# Altium footprint library PCT.PcbLib: 12 footprints
Each footprint in its own frame and in the unit in brackets; x right, y up, seen from the top. Pads: shape width x height; smd on the part's side, far side on the other; paste and mask are expansions set on the pad; w line width, h text height; cw(c..) or ccw(c..) is an arc to the next point about the centre after c.
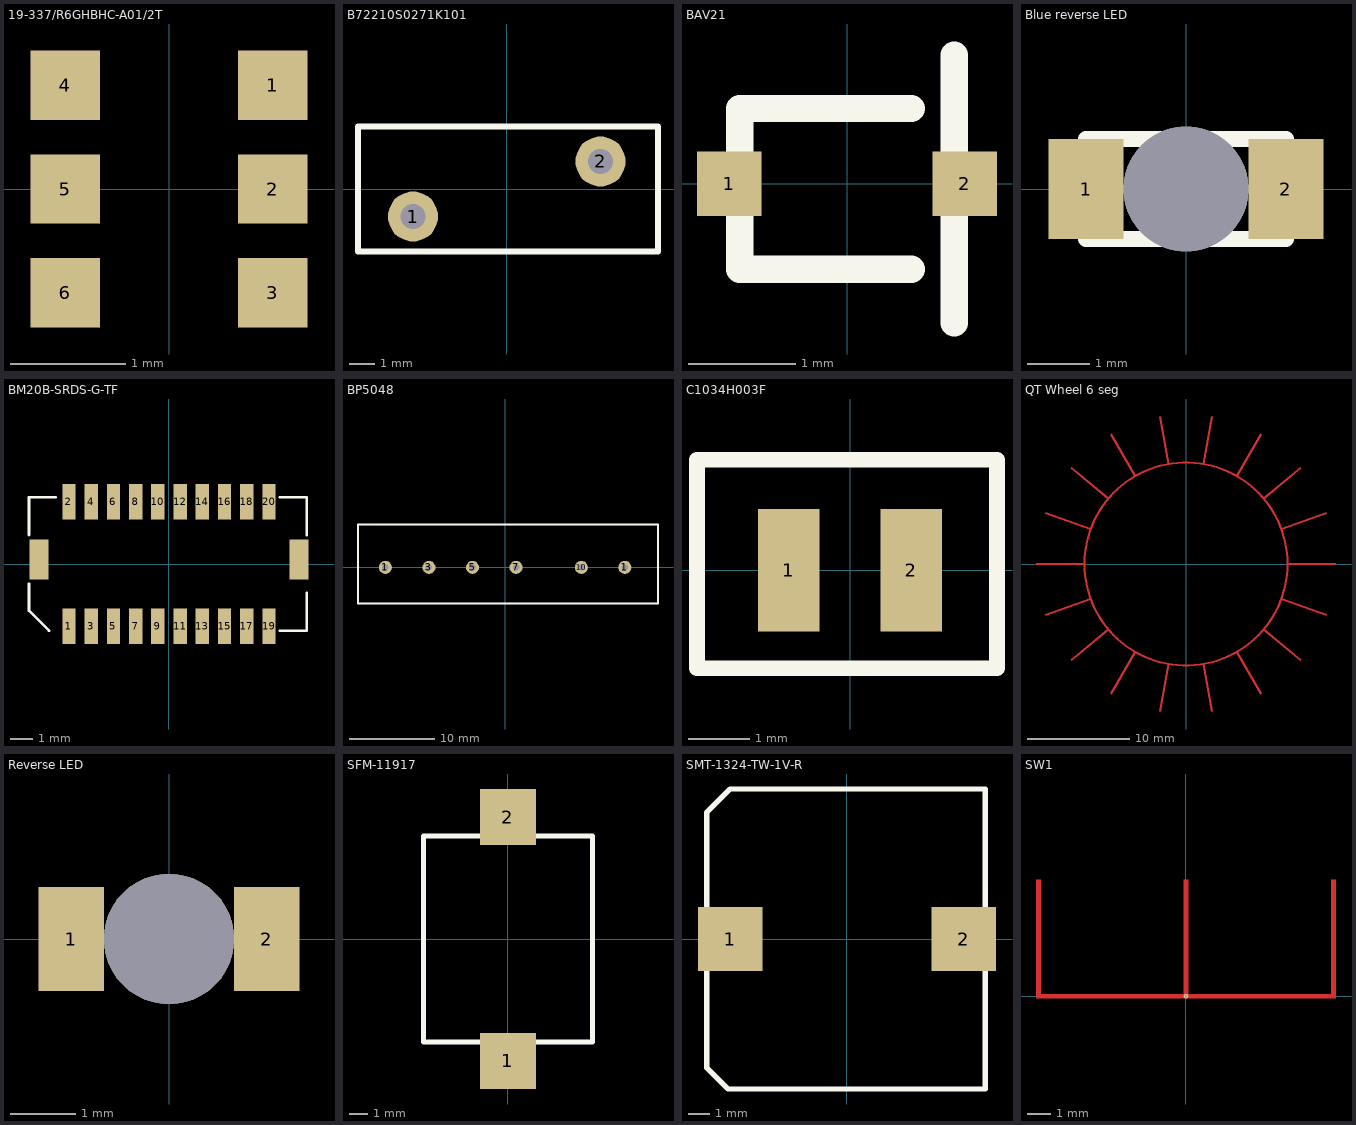
[diagram p0: the footprints below, top view; thin cyan lines are the x and y axes]

## 19-337/R6GHBHC-A01/2T [mm] "Chip LED Full Colour"
height 0.15
pads (6):
  rect 0.6x0.6 smd: 1(0.9,0.9) 2(0.9,0) 3(0.9,-0.9) 4(-0.9,0.9) 5(-0.9,0) 6(-0.9,-0.9)
Multi-Layer:
  pour cut-out: -0.6,1.3 0.6,1.3 0.6,-1.3 -0.6,-1.3

## B72210S0271K101 [mm] "Varistor"
height 14.5
pads (2):
  round 2 hole 1: 1(-3.75,-1.1) 2(3.75,1.1)
Top Overlay:
  lines w0.254: -5.95,-2.5 -5.95,2.5 6.05,2.5 6.05,-2.5 -5.95,-2.5

## BAV21 [mm] "DIOS SOD323"
height 1.15
pads (2):
  rect 0.6x0.6 smd: 1(-1.1,0) 2(1.1,0)
Top Overlay:
  lines w0.254: 0.6,-0.8 -1,-0.8 -1,0.7 0.6,0.7 ; 1,-1.3 1,1.2

## Blue reverse LED [mm] "Blue reverse LED"
height 0.3
pads (3):
  rect 1.2x1.6 smd: 1(-1.6,0) 2(1.6,0)
  round 2 hole 2 unplated mask+0: ""(0,0)
Top Overlay:
  lines w0.254: -1.6,-0.8 -1.6,0.8 1.6,0.8 1.6,-0.8 -1.6,-0.8

## BM20B-SRDS-G-TF [mm] "20-way SHD Connector"
height 6.3
pads (22):
  rect 0.6x1.6 smd: 1(-4.5,-2.8) 2(-4.5,2.8) 3(-3.5,-2.8) 4(-3.5,2.8) 5(-2.5,-2.8) 6(-2.5,2.8) 7(-1.5,-2.8) 8(-1.5,2.8) 9(-0.5,-2.8) 10(-0.5,2.8) 11(0.5,-2.8) 12(0.5,2.8) 13(1.5,-2.8) 14(1.5,2.8) 15(2.5,-2.8) 16(2.5,2.8) 17(3.5,-2.8) 18(3.5,2.8) 19(4.5,-2.8) 20(4.5,2.8)
  rect 0.85x1.8 smd: ""(-5.85,0.2) ""(5.85,0.2)
Top Overlay:
  lines w0.127: -6.3,-0.89 -6.3,-2.1 -5.4,-3 ; -6.3,1.298 -6.3,3 -5.1,3 ; 5,-3 6.2,-3 6.2,-1.298 ; 5,3 6.2,3 6.2,1.298

## BP5048 [mil] "AC/DC Convertor"
height 866.14
pads (6):
  round 60 hole 30: 1(-550,0) 1(550,0) 3(-350,0) 5(-150,0) 7(50,0) 10(350,0)
Top Overlay:
  lines w10: -675.98,-165.35 701.97,-165.35 701.97,196.85 -675.98,196.85 -675.98,-165.35

## C1034H003F [mm] "Motor pads"
pads (2):
  rect 1x2 smd: 1(-1,0) 2(1,0)
Top Overlay:
  lines w0.254: -2.5,-1.6 -2.5,1.8 2.4,1.8 2.4,-1.6 -2.5,-1.6

## QT Wheel 6 seg [mm] "Q Touch Wheel for 4mm glass 6 segment"
Top Layer:
  circle w0.2: c0,0 r9.91
  rectangle: -14.64,-0.1 -9.91,0.1
  rectangle: 9.91,-0.1 14.64,0.1
  region: -9.278,3.483 -13.723,5.101 -13.792,4.913 -9.347,3.295
  region: -7.527,6.446 -11.15,9.487 -11.279,9.334 -7.656,6.293
  region: -4.868,8.632 -7.233,12.728 -7.406,12.628 -5.041,8.532
  region: -1.623,9.777 -2.445,14.435 -2.641,14.4 -1.819,9.742
  region: 1.819,9.742 2.641,14.4 2.445,14.435 1.623,9.777
  region: 5.041,8.532 7.406,12.628 7.233,12.728 4.868,8.632
  region: 7.656,6.293 11.279,9.334 11.15,9.487 7.527,6.446
  region: 9.347,3.295 13.791,4.913 13.722,5.101 9.278,3.483
  region: 9.278,-3.483 13.723,-5.101 13.792,-4.913 9.347,-3.295
  region: 7.527,-6.446 11.15,-9.487 11.279,-9.334 7.656,-6.293
  region: 4.868,-8.632 7.233,-12.728 7.406,-12.628 5.041,-8.532
  region: 1.623,-9.777 2.445,-14.435 2.641,-14.4 1.819,-9.742
  region: -1.819,-9.742 -2.641,-14.4 -2.445,-14.435 -1.623,-9.777
  region: -5.041,-8.532 -7.406,-12.628 -7.233,-12.728 -4.868,-8.632
  region: -7.656,-6.293 -11.279,-9.334 -11.15,-9.487 -7.527,-6.446
  region: -9.347,-3.295 -13.792,-4.913 -13.723,-5.101 -9.278,-3.483

## Reverse LED [mm] "Reverse LED"
height 3
pads (3):
  rect 1x1.6 smd: 1(-1.5,0) 2(1.5,0)
  round 2 hole 2 unplated paste+0 mask+0: ""(0,0)

## SFM-11917 [mm] "Buzzer"
height 1.7
pads (2):
  rect 3x3 smd: 1(0,-6.5) 2(0,6.5)
Top Overlay:
  lines w0.254: -4.5,-5.5 4.5,-5.5 4.5,5.5 -4.5,5.5 -4.5,-5.5

## SMT-1324-TW-1V-R [mm] "Transducer"
height 6.7
pads (2):
  rect 3x3 smd: 1(-5.45,0) 2(5.45,0)
Top Overlay:
  lines w0.254: -6.55,-5.9 -6.55,-6 ; -6.55,-6 -5.55,-7 ; -6.55,-6 -5.55,-7 ; -6.55,-6 -6.55,5.9 ; -6.55,5.9 -5.45,7 ; -6.55,5.9 -5.45,7 ; -5.55,-7 6.45,-7 6.45,7 -5.45,7

## SW1 [mm] "Switch 1"
pads (1):
  round 0.2 hole 0.1: 1(0,0)
Top Layer:
  rectangle: -6.3,-0.1 -6.1,4.9
  rectangle: -6.3,-0.1 6.3,0.1
  rectangle: 6.1,-0.1 6.3,4.9
  rectangle: -0.1,-0.1 0.1,4.9